# Altium footprint library MB1849.PcbLib: 35 footprints (part 3 of 3)
Each footprint in its own frame and in the unit in brackets; x right, y up, seen from the top. Pads: shape width x height; smd on the part's side, far side on the other; paste and mask are expansions set on the pad; w line width, h text height; cw(c..) or ccw(c..) is an arc to the next point about the centre after c.
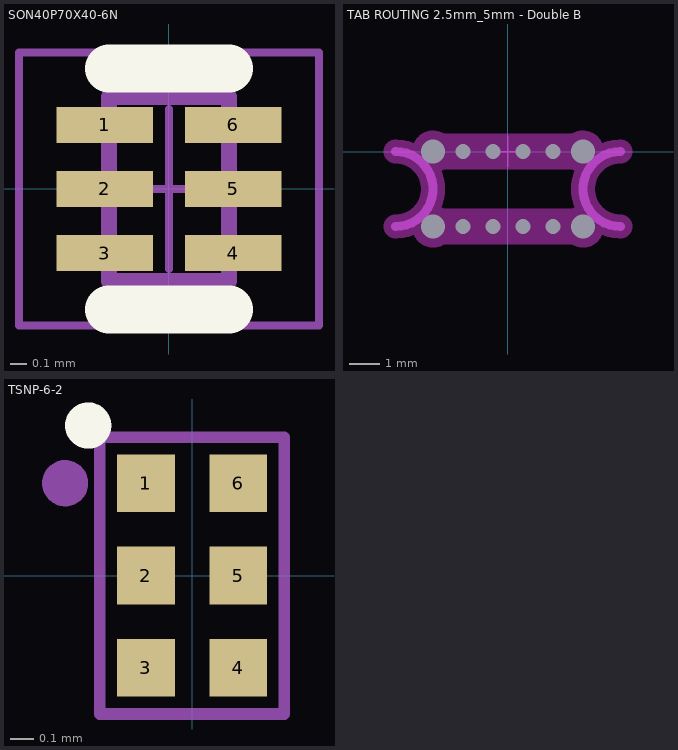
[diagram p2: the footprints below, top view; thin cyan lines are the x and y axes]

## SON40P70X40-6N [mm] "SON, 6-Leads, Body 1.10x0.70mm, Pitch 0.40mm"
height 0.4
pads (6):
  rect 0.6x0.225 smd: 1(-0.4,0.4) 2(-0.4,0) 3(-0.4,-0.4) 4(0.4,-0.4) 5(0.4,0) 6(0.4,0.4)
Top Overlay:
  lines w0.3: -0.375,-0.75 0.375,-0.75 ; -0.375,0.75 0.375,0.75
  text "." at -1.2,0.9 h4
Top Assembly (Mech14):
  lines w0.1: -0.375,-0.575 -0.375,0.575 0.375,0.575 0.375,-0.575 -0.375,-0.575
  text "." at -0.325,0.55 h4
  text ".Designator" at -0.6,-0.65 h1.25
Mechanical 17:
  lines w0.05: -0.5,0 0.5,0 ; 0,-0.5 0,0.5 ; -0.935,-0.85 -0.935,0.85 0.935,0.85 0.935,-0.85 -0.935,-0.85
3D body "SON40P70X40-6N.step": height 0.4, standoff 0, extent -0.376,-0.575 0.376,0.575

## TAB ROUTING 2.5mm_5mm - Double B [mm] "Tab Routing-Breakaway 2.5mm space 5.00mm"
pads (12):
  round 0.2 hole 0.8 unplated: 1(-2.5,-2.5) 1(-2.5,0) 1(2.5,-2.5) 1(2.5,0)
  round 0.2 hole 0.5 unplated: 2(-1.5,-2.5) 2(-1.5,0) 3(-0.5,-2.5) 3(-0.5,0) 4(0.5,-2.5) 4(0.5,0) 5(1.5,-2.5) 5(1.5,0)
Keep-Out Layer:
  circle w0.7: c-2.5,0 r0.35
  circle w0.7: c2.5,0 r0.35
  circle w0.7: c2.5,-2.5 r0.35
  circle w0.7: c-2.5,-2.5 r0.35
  rectangle: -2.5,-0.599 2.5,0.601
  rectangle: -2.5,-3.099 2.5,-1.899
  lines w0.8: -3.75,-2.5 ccw(c-3.75,-1.25) -3.75,0 ; 3.75,-2.5 cw(c3.75,-1.25) 3.75,0
Mechanical 1:
  lines w0.3: -3.75,-2.5 ccw(c-3.75,-1.25) -3.75,0 ; 3.75,-2.5 cw(c3.75,-1.25) 3.75,0
Mechanical 17:
  lines w0.05: -0.5,0 0.5,0 ; 0,-0.5 0,0.5

## TSNP-6-2 [mm] "TSNP-6-2; Body 1.1 x 0.7 mm (LxW typ)"
height 0.45
pads (6):
  rect 0.25x0.25 smd paste-0.025 mask+0.025: 1(-0.2,0.4) 2(-0.2,0) 3(-0.2,-0.4) 4(0.2,-0.4) 5(0.2,0) 6(0.2,0.4)
Top Overlay:
  circle w0.1: c-0.45,0.65 r0.05
Top Assembly (Mech14):
  circle w0.1: c-0.55,0.4 r0.05
  lines w0.05: -0.4,-0.6 -0.4,0.6 0.4,0.6 0.4,-0.6 -0.4,-0.6
  text ".Designator" at -0.727,0.874 h1.25
3D body: height 0.45, standoff 0.05, extent -0.35,-0.55 0.35,0.55